# Altium schematic symbol library Sensors.SchLib: 12 symbols
Pins are listed as number, name and electrical type; pins without a type are passive.

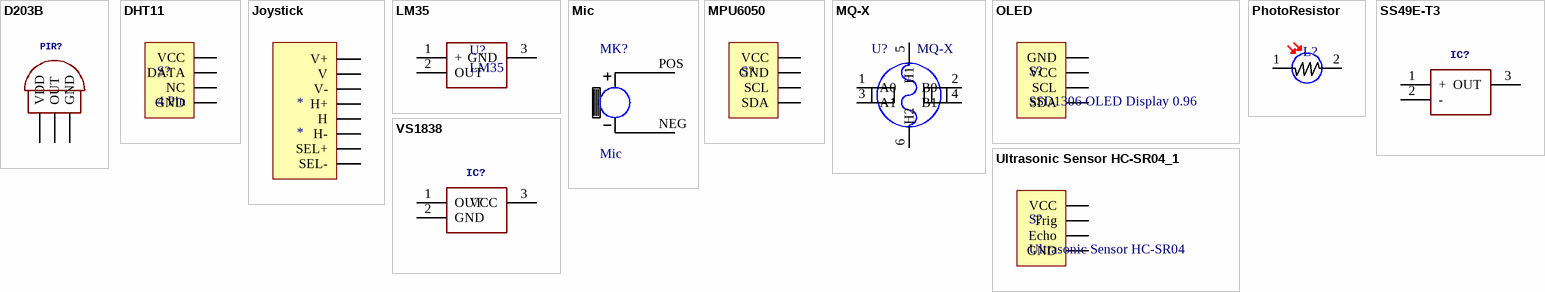
[diagram p0: symbols D203B to VS1838]

## D203B
designator PIR?
GateName_1: G$1; SymbolName_1: 3PIN; DeviceSetName: D203B; LibraryName: senba-pir-sensor; Package: 3PIN
footprint D203B
pins: 1 VDD, 2 OUT, 3 GND

## DHT11
designator S?, comment 4 Pin
footprint DHT11 (DHT11 Humidity/Temp Sensor)
pins: 1 VCC, 2 DATA, 3 NC, 4 GND

## Joystick
designator *
footprint Joystick (2 axis Joystick)
pins: H1 H+, H2 H, H3 H-, S1 SEL+, S2 SEL-, V1 V+, V2 V, V3 V-

## LM35
designator U?
LM35 Temperature Sensor; Designer: Seyed Mohsen Ghasemain; E-mail: picpars@gmail.com; ComponentLinkURL: www.picpars.com
footprint LM35
pins: 1 +, 2 OUT, 3 GND

## Mic
designator MK?
MIC COND ANALOG OMNI -38DB; MF: PUI; MP: AOM-6738P-R; Package: None; Availability: Good; Price: 1.06 USD; Value: *
footprint Mic (Electret Microphone)
pins: NEG, POS

## MPU6050
designator S?
footprint MPU6050
pins: 1 VCC, 2 GND, 3 SCL, 4 SDA

## MQ-X
designator U?
MF: Mac8; MP: MQ9; Availability: Unavailable; Price: None; Package: None; Value: *
footprint MQ-X
pins: 1 A0 (io), 2 B0 (io), 3 A1 (io), 4 B1 (io), 5 H1 (io), 6 H2 (io)

## OLED
designator S?, comment SSD1306 OLED Display 0.96
footprint OLED (SSD1306 OLED Display 0.96)
pins: 1 GND, 2 VCC, 3 SCL, 4 SDA

## PhotoResistor
designator L?
footprint PhotoResistor
pins: 1, 2

## SS49E-T3
designator IC?
Manufacturer_Name: Honeywell; GateName_1: G$1; SymbolName_1: SS49E-T3; Allied_Number: 70238630; LibraryName: SS49E-T3; DeviceSetName: SS49E-T3; Package: TO130P160X410X300-3P; Supplier_Name: RS; RS_Part_Number: 8749069; Manufacturer_Part_Number: SS49E-T3; Height: 1.6mm
footprint SSe49
pins: 1 +, 2 -, 3 OUT

## Ultrasonic Sensor HC-SR04_1
designator S?, comment Ultrasonic Sensor HC-SR04
footprint Ultrasonic (Ultrasonic Sensor HC-SR04)
pins: 1 VCC, 2 Trig, 3 Echo, 4 GND

## VS1838
designator IC?
Manufacturer_Name: Honeywell; GateName_1: G$1; SymbolName_1: SS49E-T3; Allied_Number: 70238630; LibraryName: SS49E-T3; DeviceSetName: SS49E-T3; Package: TO130P160X410X300-3P; Supplier_Name: RS; RS_Part_Number: 8749069; Manufacturer_Part_Number: SS49E-T3; Height: 1.6mm
footprint VS1838
pins: 1 OUT, 2 GND, 3 VCC